# EAGLE library part EM4325 (library RFID)
EM Microelectronic EM4325 - 18000-6 Type C (Gen2) and Type C/D (Gen2/TOTAL) RFID IC
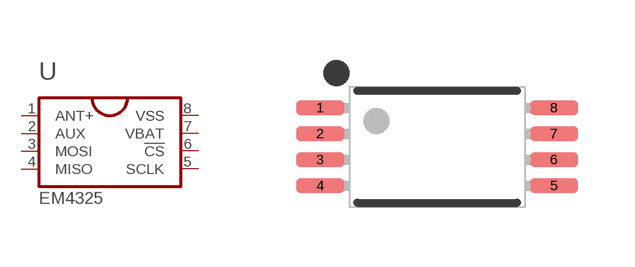
[diagram p0: symbol with the pads of TSSOP08; footprint TSSOP08]

Designator prefix U

## EM4325TP8B+ (PARTNO: 01-100443-00)  [TSSOP08]
1  ANT+  pas
2  AUX
3  MOSI
4  MISO
5  SCLK
6  !CS
7  VBAT  pwr
8  VSS  pwr

## Footprint TSSOP08 (pad centres in mm)
smd 1.2 x 0.35: 1 -2.925,0.975; 2 -2.925,0.325; 3 -2.925,-0.325; 4 -2.925,-0.975; 5 2.925,-0.975; 6 2.925,-0.325; 7 2.925,0.325; 8 2.925,0.975